# Altium footprint library SOP_127P_L.PcbLib: 38 footprints (part 3 of 3)
Each footprint in its own frame and in the unit in brackets; x right, y up, seen from the top. Pads: shape width x height; smd on the part's side, far side on the other; paste and mask are expansions set on the pad; w line width, h text height; cw(c..) or ccw(c..) is an arc to the next point about the centre after c.
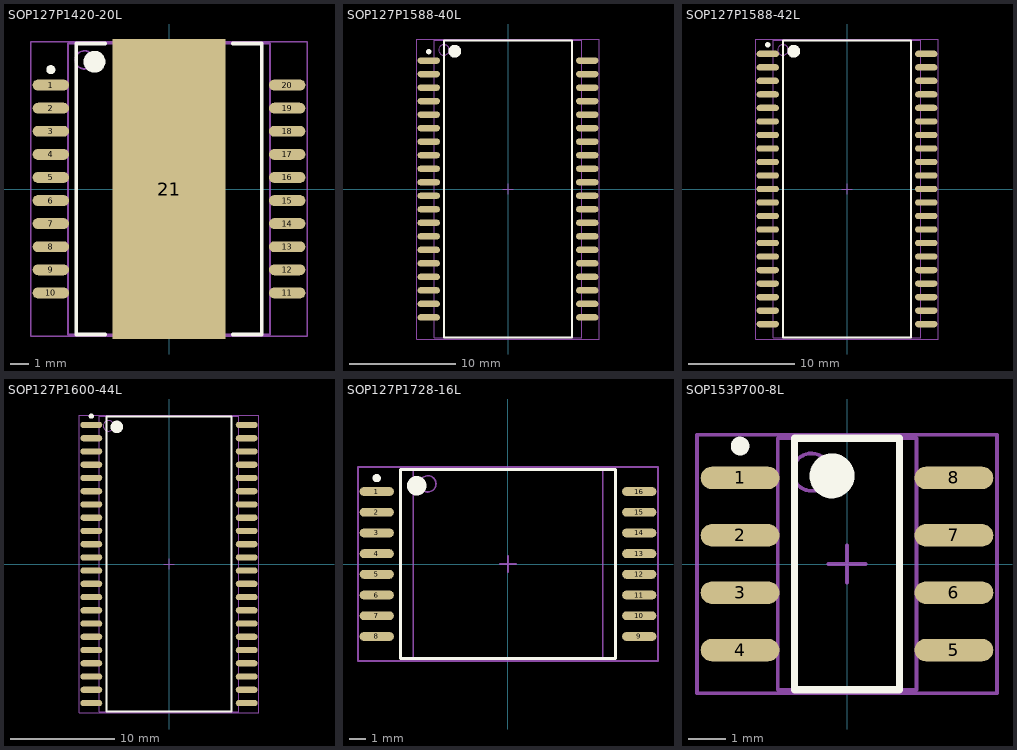
[diagram p2: the footprints below, top view; thin cyan lines are the x and y axes]

## SOP127P1420-20L [mm] "20-Pin Small Outline Package 1.27 mm Pitch"
height 3.6
pads (21):
  oval 2x0.6 smd: 1(-6.5,5.715) 2(-6.5,4.445) 3(-6.5,3.175) 4(-6.5,1.905) 5(-6.5,0.635) 6(-6.5,-0.635) 7(-6.5,-1.905) 8(-6.5,-3.175) 9(-6.5,-4.445) 10(-6.5,-5.715) 11(6.5,-5.715) 12(6.5,-4.445) 13(6.5,-3.175) 14(6.5,-1.905) 15(6.5,-0.635) 16(6.5,0.635) 17(6.5,1.905) 18(6.5,3.175) 19(6.5,4.445) 20(6.5,5.715)
  rect 6.2x16.5 smd: 21(0,0)
Top Overlay:
  circle w0.6: c-4.1,7 r0.3
  circle w0.25: c-6.5,6.565 r0.125
  lines w0.2: -3.5,-8 -5.1,-8 -5.1,8 -3.5,8 ; 3.5,-8 5.1,-8 5.1,8 3.5,8
Mechanical 13:
  circle w0.1: c-4.65,7.1 r0.5
  lines w0.1: -5.55,-8 5.55,-8 5.55,8 -5.55,8 -5.55,-8
Mechanical 15:
  lines w0.1: -0.5,0 0.5,0 ; 0,-0.5 0,0.5 ; -7.6,-8.1 7.6,-8.1 7.6,8.1 -7.6,8.1 -7.6,-8.1
3D body: height 3.6, standoff 0, extent -5.55,-8 5.55,8

## SOP127P1588-40L [mm] "SOP, 40-Leads, Body 27x13.8mm, Pitch 1.27mm, IPC High Density"
height 4
pads (40):
  oval 2.1x0.6 smd: 1(-7.45,12.065) 2(-7.45,10.795) 3(-7.45,9.525) 4(-7.45,8.255) 5(-7.45,6.985) 6(-7.45,5.715) 7(-7.45,4.445) 8(-7.45,3.175) 9(-7.45,1.905) 10(-7.45,0.635) 11(-7.45,-0.635) 12(-7.45,-1.905) 13(-7.45,-3.175) 14(-7.45,-4.445) 15(-7.45,-5.715) 16(-7.45,-6.985) 17(-7.45,-8.255) 18(-7.45,-9.525) 19(-7.45,-10.795) 20(-7.45,-12.065) 21(7.45,-12.065) 22(7.45,-10.795) 23(7.45,-9.525) 24(7.45,-8.255) 25(7.45,-6.985) 26(7.45,-5.715) 27(7.45,-4.445) 28(7.45,-3.175) 29(7.45,-1.905) 30(7.45,-0.635) 31(7.45,0.635) 32(7.45,1.905) 33(7.45,3.175) 34(7.45,4.445) 35(7.45,5.715) 36(7.45,6.985) 37(7.45,8.255) 38(7.45,9.525) 39(7.45,10.795) 40(7.45,12.065)
Top Overlay:
  circle w0.6: c-5,12.95 r0.3
  circle w0.25: c-7.45,12.915 r0.125
  lines w0.2: -6,-13.95 6,-13.95 6,13.95 -6,13.95 -6,-13.95
Mechanical 13:
  circle w0.1: c-6.02,13.07 r0.5
  lines w0.1: -6.92,-13.97 6.92,-13.97 6.92,13.97 -6.92,13.97 -6.92,-13.97
Mechanical 15:
  lines w0.1: -0.5,0 0.5,0 ; 0,-0.5 0,0.5 ; -8.6,-14.1 8.6,-14.1 8.6,14.1 -8.6,14.1 -8.6,-14.1
3D body: height 4, standoff 0, extent -6.92,-13.97 6.92,13.97

## SOP127P1588-42L [mm] "SOP, 42-Leads, Body 27x13.8mm, Pitch 1.27mm, IPC High Density"
height 4
pads (42):
  oval 2.1x0.6 smd: 1(-7.45,12.7) 2(-7.45,11.43) 3(-7.45,10.16) 4(-7.45,8.89) 5(-7.45,7.62) 6(-7.45,6.35) 7(-7.45,5.08) 8(-7.45,3.81) 9(-7.45,2.54) 10(-7.45,1.27) 11(-7.45,0) 12(-7.45,-1.27) 13(-7.45,-2.54) 14(-7.45,-3.81) 15(-7.45,-5.08) 16(-7.45,-6.35) 17(-7.45,-7.62) 18(-7.45,-8.89) 19(-7.45,-10.16) 20(-7.45,-11.43) 21(-7.45,-12.7) 22(7.45,-12.7) 23(7.45,-11.43) 24(7.45,-10.16) 25(7.45,-8.89) 26(7.45,-7.62) 27(7.45,-6.35) 28(7.45,-5.08) 29(7.45,-3.81) 30(7.45,-2.54) 31(7.45,-1.27) 32(7.45,0) 33(7.45,1.27) 34(7.45,2.54) 35(7.45,3.81) 36(7.45,5.08) 37(7.45,6.35) 38(7.45,7.62) 39(7.45,8.89) 40(7.45,10.16) 41(7.45,11.43) 42(7.45,12.7)
Top Overlay:
  circle w0.6: c-5,12.95 r0.3
  circle w0.25: c-7.45,13.55 r0.125
  lines w0.2: -6,-13.95 6,-13.95 6,13.95 -6,13.95 -6,-13.95
Mechanical 13:
  circle w0.1: c-6.02,13.07 r0.5
  lines w0.1: -6.92,-13.97 6.92,-13.97 6.92,13.97 -6.92,13.97 -6.92,-13.97
Mechanical 15:
  lines w0.1: -0.5,0 0.5,0 ; 0,-0.5 0,0.5 ; -8.6,-14.1 8.6,-14.1 8.6,14.1 -8.6,14.1 -8.6,-14.1
3D body: height 4, standoff 0, extent -6.92,-13.97 6.92,13.97

## SOP127P1600-44L [mm] "44-Pin Small Outline Package 1.27 mm Pitch"
pads (44):
  oval 2.1x0.6 smd: 1(-7.45,13.335) 2(-7.45,12.065) 3(-7.45,10.795) 4(-7.45,9.525) 5(-7.45,8.255) 6(-7.45,6.985) 7(-7.45,5.715) 8(-7.45,4.445) 9(-7.45,3.175) 10(-7.45,1.905) 11(-7.45,0.635) 12(-7.45,-0.635) 13(-7.45,-1.905) 14(-7.45,-3.175) 15(-7.45,-4.445) 16(-7.45,-5.715) 17(-7.45,-6.985) 18(-7.45,-8.255) 19(-7.45,-9.525) 20(-7.45,-10.795) 21(-7.45,-12.065) 22(-7.45,-13.335) 23(7.45,-13.335) 24(7.45,-12.065) 25(7.45,-10.795) 26(7.45,-9.525) 27(7.45,-8.255) 28(7.45,-6.985) 29(7.45,-5.715) 30(7.45,-4.445) 31(7.45,-3.175) 32(7.45,-1.905) 33(7.45,-0.635) 34(7.45,0.635) 35(7.45,1.905) 36(7.45,3.175) 37(7.45,4.445) 38(7.45,5.715) 39(7.45,6.985) 40(7.45,8.255) 41(7.45,9.525) 42(7.45,10.795) 43(7.45,12.065) 44(7.45,13.335)
Top Overlay:
  circle w0.25: c-7.45,14.185 r0.125
  circle w0.6: c-5,13.15 r0.3
  lines w0.2: -6,-14.15 -6,14.15 6,14.15 6,-14.15 -6,-14.15
Mechanical 13:
  circle w0.1: c-5.8,13.25 r0.5
  lines w0.1: -6.7,-14.15 -6.7,14.15 6.7,14.15 6.7,-14.15 -6.7,-14.15
Mechanical 15:
  lines w0.1: -0.5,0 0.5,0 ; 0,-0.5 0,0.5 ; -8.6,-14.25 -8.6,14.25 8.6,14.25 8.6,-14.25 -8.6,-14.25
3D body: height 0, standoff 0, extent -6.7,-14.15 6.7,14.15

## SOP127P1728-16L [mm] "SOP, 16-Leads, Body 11.4x11.4mm, Pitch 1.27mm, IPC High Density"
height 3.38
pads (16):
  oval 2.1x0.55 smd: 1(-8.05,4.445) 2(-8.05,3.175) 3(-8.05,1.905) 4(-8.05,0.635) 5(-8.05,-0.635) 6(-8.05,-1.905) 7(-8.05,-3.175) 8(-8.05,-4.445) 9(8.05,-4.445) 10(8.05,-3.175) 11(8.05,-1.905) 12(8.05,-0.635) 13(8.05,0.635) 14(8.05,1.905) 15(8.05,3.175) 16(8.05,4.445)
Top Overlay:
  circle w0.6: c-5.6,4.8 r0.3
  circle w0.25: c-8.05,5.27 r0.125
  lines w0.2: -6.6,-5.8 6.6,-5.8 6.6,5.8 -6.6,5.8 -6.6,-5.8
Mechanical 13:
  circle w0.1: c-4.915,4.915 r0.5
  lines w0.1: -5.815,-5.815 5.815,-5.815 5.815,5.815 -5.815,5.815 -5.815,-5.815
Mechanical 15:
  lines w0.1: -0.5,0 0.5,0 ; 0,-0.5 0,0.5 ; -9.2,-5.95 9.2,-5.95 9.2,5.95 -9.2,5.95 -9.2,-5.95
3D body: height 3.38, standoff 0, extent -5.815,-5.815 5.815,5.815

## SOP153P700-8L [mm] "8-Pin Small Outline Package 1.53 mm Pitch"
height 1.7
pads (8):
  oval 2.1x0.6 smd: 1(-2.85,2.295) 2(-2.85,0.765) 3(-2.85,-0.765) 4(-2.85,-2.295) 5(2.85,-2.295) 6(2.85,-0.765) 7(2.85,0.765) 8(2.85,2.295)
Top Overlay:
  circle w0.6: c-0.4,2.35 r0.3
  circle w0.25: c-2.85,3.145 r0.125
  lines w0.2: -1.4,-3.35 1.4,-3.35 1.4,3.35 -1.4,3.35 -1.4,-3.35
Mechanical 13:
  circle w0.1: c-0.95,2.45 r0.5
  lines w0.1: -1.85,-3.35 1.85,-3.35 1.85,3.35 -1.85,3.35 -1.85,-3.35
Mechanical 15:
  lines w0.1: -0.5,0 0.5,0 ; 0,-0.5 0,0.5 ; -4,-3.45 4,-3.45 4,3.45 -4,3.45 -4,-3.45
3D body: height 1.7, standoff 0, extent -1.85,-3.35 1.85,3.35